# Altium schematic symbol library basic_components.SchLib: 136 symbols
Pins are listed as number, name and electrical type; pins without a type are passive.

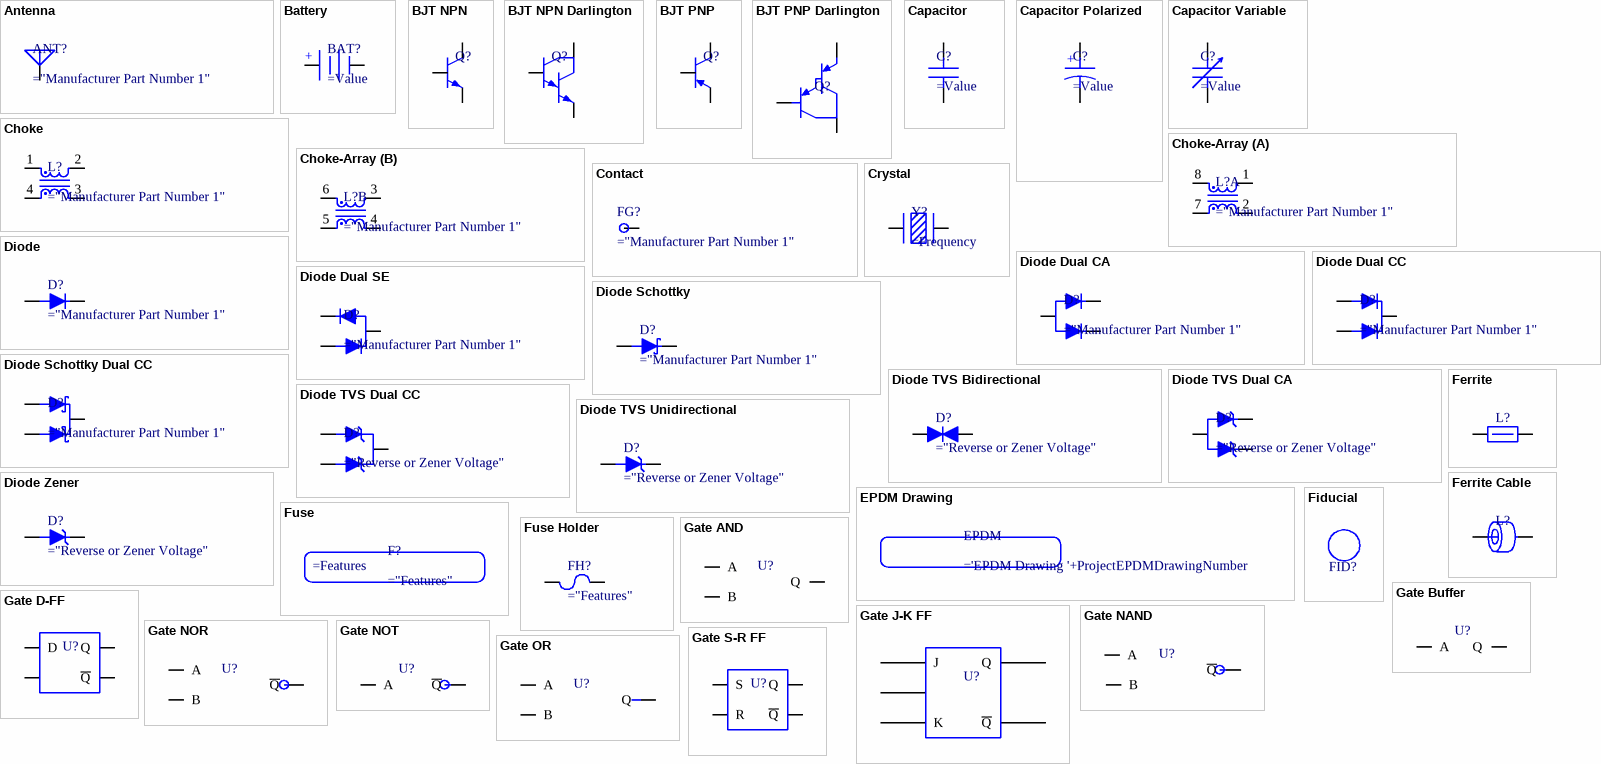
[diagram p0: symbols Antenna to Gate S-R FF]

## Antenna
designator ANT?
Generic Antenna
pins: 1 IN "Antenna Input"

## Battery
designator BAT?
Generic Battery
simulation model Battery (Generic Battery (DC Source))
pins: 1 +, 2 -

## BJT NPN
designator Q?
Generic NPN bipolar transistor
pins: 1 B, 2 E, 3 C

## BJT NPN Darlington
designator Q?
Generic NPN bipolar Darlington pair
pins: 1 B, 2 E, 3 C

## BJT PNP
designator Q?
Generic PNP bipolar transistor
pins: 1 B, 2 E, 3 C

## BJT PNP Darlington
designator Q?
Generic PNP bipolar Darlington pair
pins: 1 B, 2 E, 3 C

## Capacitor
designator C?
Generic cap
pins: 1, 2

## Capacitor Polarized
designator C?
Generic Polarized cap
pins: 1 +, 2 -

## Capacitor Variable
designator C?
Generic variable cap
pins: 1, 2

## Choke
designator L?
Generic Common Mode Choke
pins: 1, 2, 3, 4

## Choke-Array
designator L?
Dual Choke Array
part A pins: 1, 2, 7, 8
part B pins: 3, 4, 5, 6

## Contact
designator FG?  (mechanical)
Really Generic Contact
pins: 1

## Crystal
designator Y?
Generic Crystal Oscillator
pins: 1, 2

## Diode
designator D?
Generic diode
pins: 1 ANODE, 2 CATHODE

## Diode Dual CA
designator D?
Generic Dual Diode, Common Anode
pins: 1 CATHODE_2, 2 CATHODE_1, 3 ANODE

## Diode Dual CC
designator D?
Generic Dual Diode, Common Cathode
pins: 1 ANODE_1, 2 ANODE_2, 3 CATHODE

## Diode Dual SE
designator D?
Generic Dual Diode, Series Connection
pins: 1 ANODE_1, 2 CATHODE_2, 3 CATHODE_1 / ANODE_2

## Diode Schottky
designator D?
Generic Schottky Diode
pins: 1 ANODE, 2 CATHODE

## Diode Schottky Dual CC
designator D?
Generic Dual Schottky Diode, Common Cathode
pins: 1 ANODE_1, 2 ANODE_2, 3 CATHODE

## Diode TVS Bidirectional
designator D?
Generic Bidirectional TVS Diode
pins: 1 ANODE, 2 CATHODE

## Diode TVS Dual CA
designator D?
Dual TVS Diode, Common Anode
pins: 1 CATHODE_2, 2 CATHODE_1, 3 ANODE

## Diode TVS Dual CC
designator D?
Dual TVS Diode, Common Cathode
pins: 1 CATHODE_2, 2 CATHODE_1, 3 ANODE

## Diode TVS Unidirectional
designator D?
Generic Unidirectional TVS Diode
pins: 1 ANODE, 2 CATHODE

## Diode Zener
designator D?
Generic Zener Diode
pins: 1 ANODE, 2 CATHODE

## EPDM Drawing
designator EPDM  (no BOM)
Tag for EPDM Drawing Number

## Ferrite
designator L?
Generic ferrite
pins: 1, 2
1 alternate drawing of the same symbol

## Ferrite Cable
designator L?  (value not drawn)
Generic Ferrite Over Cable
pins: 1, 2

## Fiducial
designator FID?  (value not drawn)  (no BOM)

## Fuse
designator F?  (mechanical)
Generic Fuse

## Fuse Holder
designator FH?
Generic Fuse Holder
pins: 1, 2

## Gate AND
designator U?  (value not drawn)
Generic AND gate
pins: 1 A, 2 B, 3 Q

## Gate Buffer
designator U?  (value not drawn)
Generic Digital Buffer
pins: 1 A, 2 Q

## Gate D-FF
designator U?  (value not drawn)
Generic D-flip flop
pins: 1 D, 2 CLK, 3 Q, 4 ~{Q}

## Gate J-K FF
designator U?  (value not drawn)
Generic J-K flip flop
pins: 1 J, 2 K, 3 Q, 4 ~{Q}, 5 CLK

## Gate NAND
designator U?  (value not drawn)
Generic NAND gate
pins: 1 A, 2 B, 3 ~{Q}

## Gate NOR
designator U?  (value not drawn)
Generic NOR gate
pins: 0 A, 1 B, 2 ~{Q}

## Gate NOT
designator U?  (value not drawn)
Generic NOT gate
pins: 1 A, 3 ~{Q}

## Gate OR
designator U?  (value not drawn)
Generic OR gate
pins: 1 A, 2 B, 3 Q

## Gate S-R FF
designator U?  (value not drawn)
Generic S-R flip-flop
pins: 1 S, 2 R, 3 Q, 4 ~{Q}

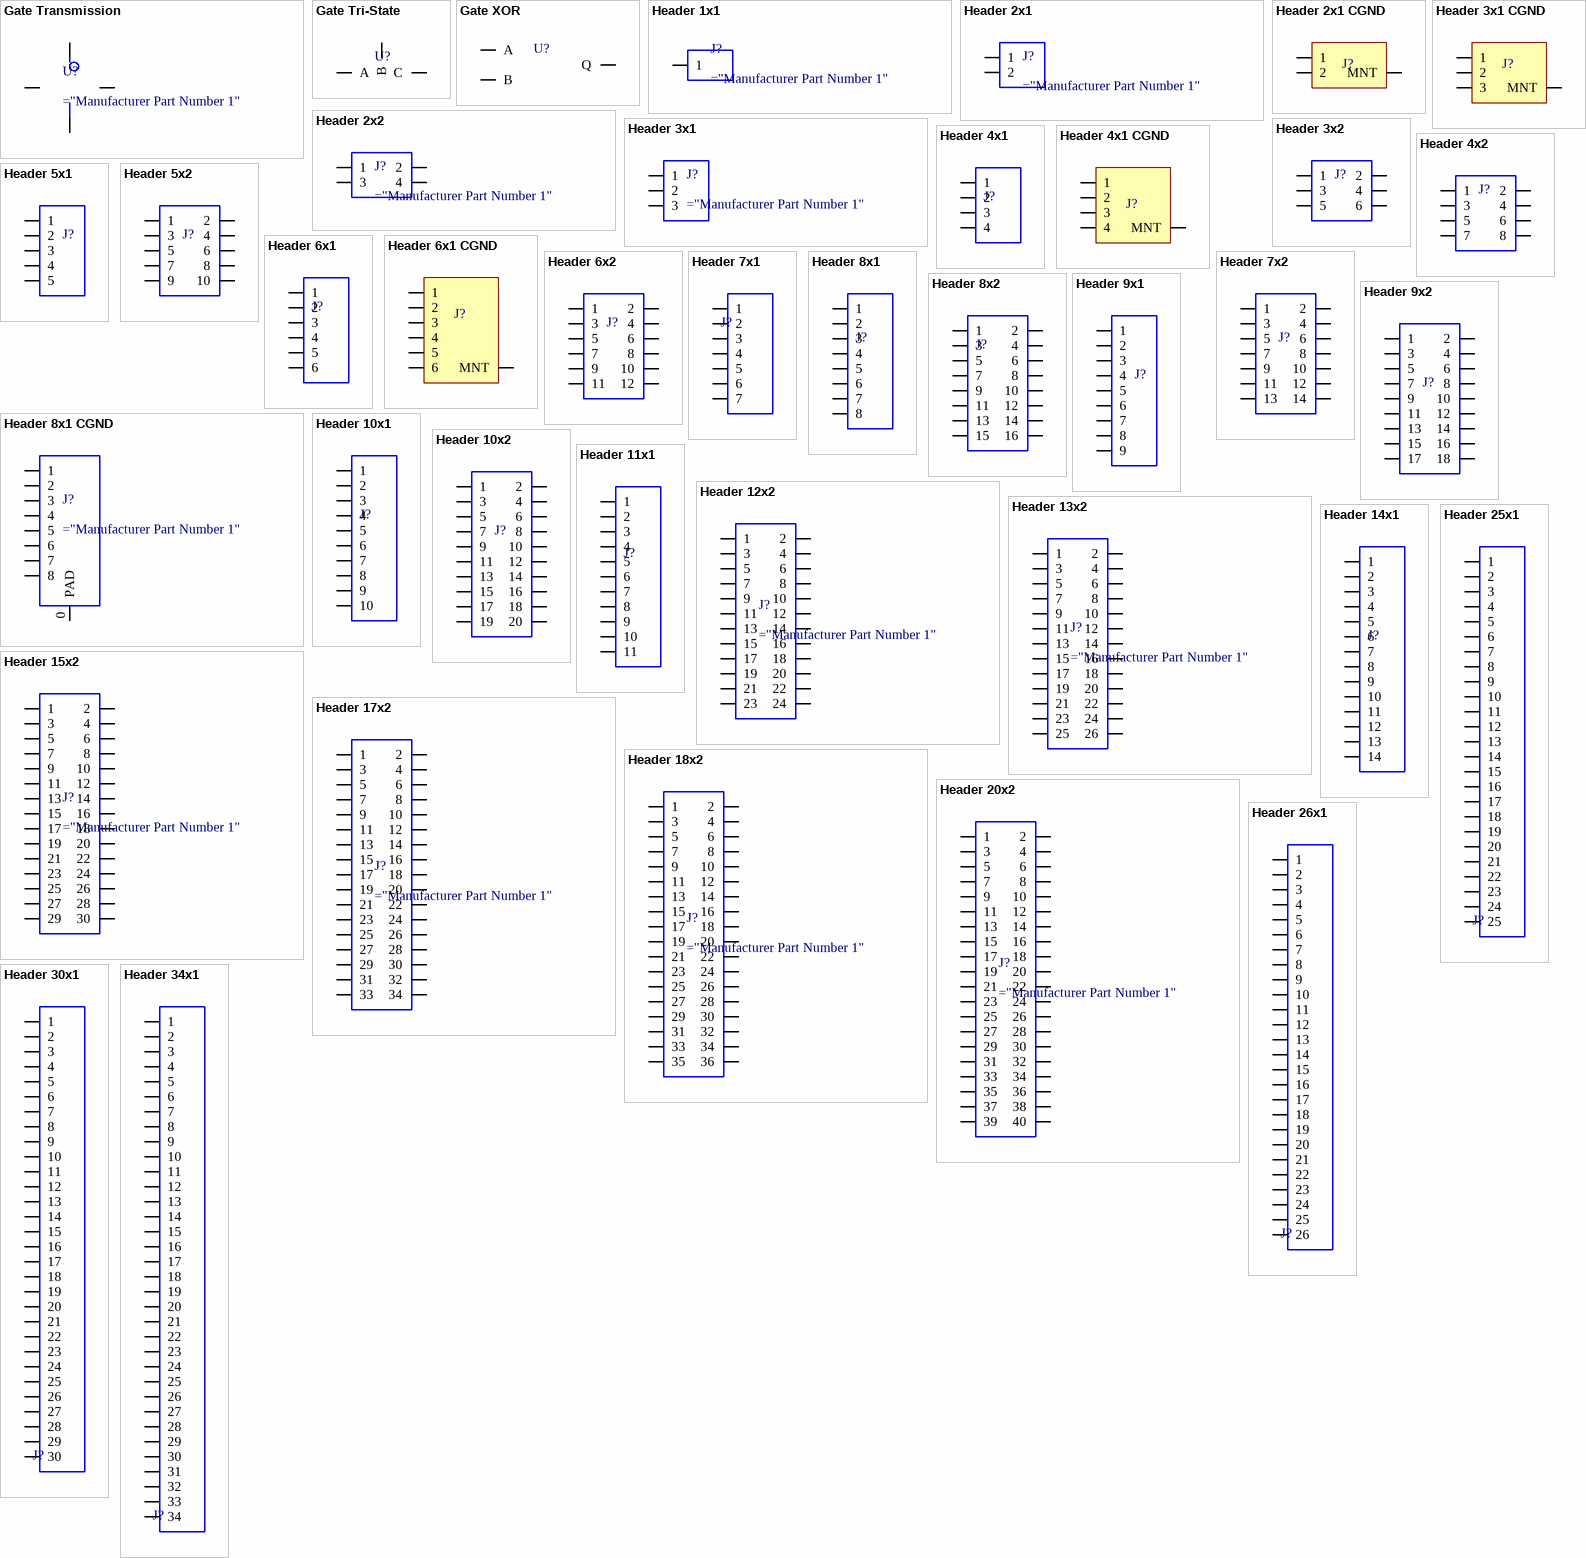
[diagram p1: symbols Gate Transmission to Header 34x1]

## Gate Transmission
designator U?
Generic Transmission Gate
pins: 1 A, 2 C, 3, 4

## Gate Tri-State
designator U?  (value not drawn)
Generic Tristate Buffer
pins: 1 A, 2 C, 3 B

## Gate XOR
designator U?  (value not drawn)
Generic XOR gate
pins: 1 A, 2 B, 3 Q

## Header 1x1
designator J?
Generic 1x1 Header
pins: 1

## Header 2x1
designator J?
Generic 2x1 Header
pins: 1, 2

## Header 2x1 CGND
designator J?
Generic 2x1 with CGND
pins: 1, 2, 3 MNT

## Header 2x2
designator J?
Generic 2x2 Header
pins: 1, 2, 3, 4

## Header 3x1
designator J?
Generic 3x1 Header
pins: 1, 2, 3

## Header 3x1 CGND
designator J?
Generic 3x1 with CGND
pins: 1, 2, 3, 4 MNT

## Header 3x2
designator J?
Generic 3x2 Header
pins: 1, 2, 3, 4, 5, 6

## Header 4x1
designator J?
Generic 4x1 Header
pins: 1, 2, 3, 4

## Header 4x1 CGND
designator J?
Generic 4x1 Header with CGND
pins: 1, 2, 3, 4, 5 MNT

## Header 4x2
designator J?
Generic 4x2 Header
pins: 1, 2, 3, 4, 5, 6, 7, 8

## Header 5x1
designator J?
Generic 5x1 Header
pins: 1, 2, 3, 4, 5

## Header 5x2
designator J?
Generic 5x2 Header
pins: 1, 2, 3, 4, 5, 6, 7, 8, 9, 10

## Header 6x1
designator J?
Generic 6x1 Header
pins: 1, 2, 3, 4, 5, 6

## Header 6x1 CGND
designator J?  (value not drawn)
Generic 6x1 with CGND
pins: 1, 2, 3, 4, 5, 6, 7 MNT

## Header 6x2
designator J?
Generic 6x2 Header
pins: 1, 2, 3, 4, 5, 6, 7, 8, 9, 10, 11, 12

## Header 7x1
designator J?
Generic 7x1 Header
pins: 1, 2, 3, 4, 5, 6, 7

## Header 7x2
designator J?
Generic 7x2 Header
pins: 1, 2, 3, 4, 5, 6, 7, 8, 9, 10, 11, 12, 13, 14

## Header 8x1
designator J?
Generic 8x1 Header
pins: 1, 2, 3, 4, 5, 6, 7, 8

## Header 8x1 CGND
designator J?
Generic 8x1 Header with CGND
pins: 0 PAD, 1, 2, 3, 4, 5, 6, 7, 8

## Header 8x2
designator J?
Generic 8x2 Header
pins: 1, 2, 3, 4, 5, 6, 7, 8, 9, 10, 11, 12, 13, 14, 15, 16

## Header 9x1
designator J?
Generic 9x1 Header
pins: 1, 2, 3, 4, 5, 6, 7, 8, 9

## Header 9x2
designator J?
Generic 9x2 Header
pins: 1, 2, 3, 4, 5, 6, 7, 8, 9, 10, 11, 12, 13, 14, 15, 16, 17, 18

## Header 10x1
designator J?
Generic 10x1 Header
pins: 1, 2, 3, 4, 5, 6, 7, 8, 9, 10

## Header 10x2
designator J?
Generic 10x2 Header
pins: 1, 2, 3, 4, 5, 6, 7, 8, 9, 10, 11, 12, 13, 14, 15, 16, 17, 18, 19, 20

## Header 11x1
designator J?
Generic 11x1 Header
pins: 1, 2, 3, 4, 5, 6, 7, 8, 9, 10, 11

## Header 12x2
designator J?
Generic 12x2 Header
pins: 1, 2, 3, 4, 5, 6, 7, 8, 9, 10, 11, 12, 13, 14, 15, 16, 17, 18, 19, 20, 21, 22, 23, 24

## Header 13x2
designator J?
Generic 13x2 Header
pins: 1, 2, 3, 4, 5, 6, 7, 8, 9, 10, 11, 12, 13, 14, 15, 16, 17, 18, 19, 20, 21, 22, 23, 24, 25, 26

## Header 14x1
designator J?
Generic 14x1 Header
pins: 1, 2, 3, 4, 5, 6, 7, 8, 9, 10, 11, 12, 13, 14

## Header 15x2
designator J?
Generic 15x2 Header
pins: 1, 2, 3, 4, 5, 6, 7, 8, 9, 10, 11, 12, 13, 14, 15, 16, 17, 18, 19, 20, 21, 22, 23, 24, 25, 26, 27, 28, 29, 30

## Header 17x2
designator J?
Generic 17x2 Header
pins: 1, 2, 3, 4, 5, 6, 7, 8, 9, 10, 11, 12, 13, 14, 15, 16, 17, 18, 19, 20, 21, 22, 23, 24, 25, 26, 27, 28, 29, 30, 31, 32, 33, 34

## Header 18x2
designator J?
Generic 18x2 Header
pins: 1, 2, 3, 4, 5, 6, 7, 8, 9, 10, 11, 12, 13, 14, 15, 16, 17, 18, 19, 20, 21, 22, 23, 24, 25, 26, 27, 28, 29, 30, 31, 32, 33, 34, 35, 36

## Header 20x2
designator J?
Generic 20x2 Header
pins: 1, 2, 3, 4, 5, 6, 7, 8, 9, 10, 11, 12, 13, 14, 15, 16, 17, 18, 19, 20, 21, 22, 23, 24, 25, 26, 27, 28, 29, 30, 31, 32, 33, 34, 35, 36, 37, 38, 39, 40

## Header 25x1
designator J?
Generic 25x1 Header
pins: 1, 2, 3, 4, 5, 6, 7, 8, 9, 10, 11, 12, 13, 14, 15, 16, 17, 18, 19, 20, 21, 22, 23, 24, 25

## Header 26x1
designator J?
Generic 26x1 Header
pins: 1, 2, 3, 4, 5, 6, 7, 8, 9, 10, 11, 12, 13, 14, 15, 16, 17, 18, 19, 20, 21, 22, 23, 24, 25, 26

## Header 30x1
designator J?
Generic 30x1 Header
pins: 1, 2, 3, 4, 5, 6, 7, 8, 9, 10, 11, 12, 13, 14, 15, 16, 17, 18, 19, 20, 21, 22, 23, 24, 25, 26, 27, 28, 29, 30

## Header 34x1
designator J?
Generic 34x1 Header
pins: 1, 2, 3, 4, 5, 6, 7, 8, 9, 10, 11, 12, 13, 14, 15, 16, 17, 18, 19, 20, 21, 22, 23, 24, 25, 26, 27, 28, 29, 30, 31, 32, 33, 34

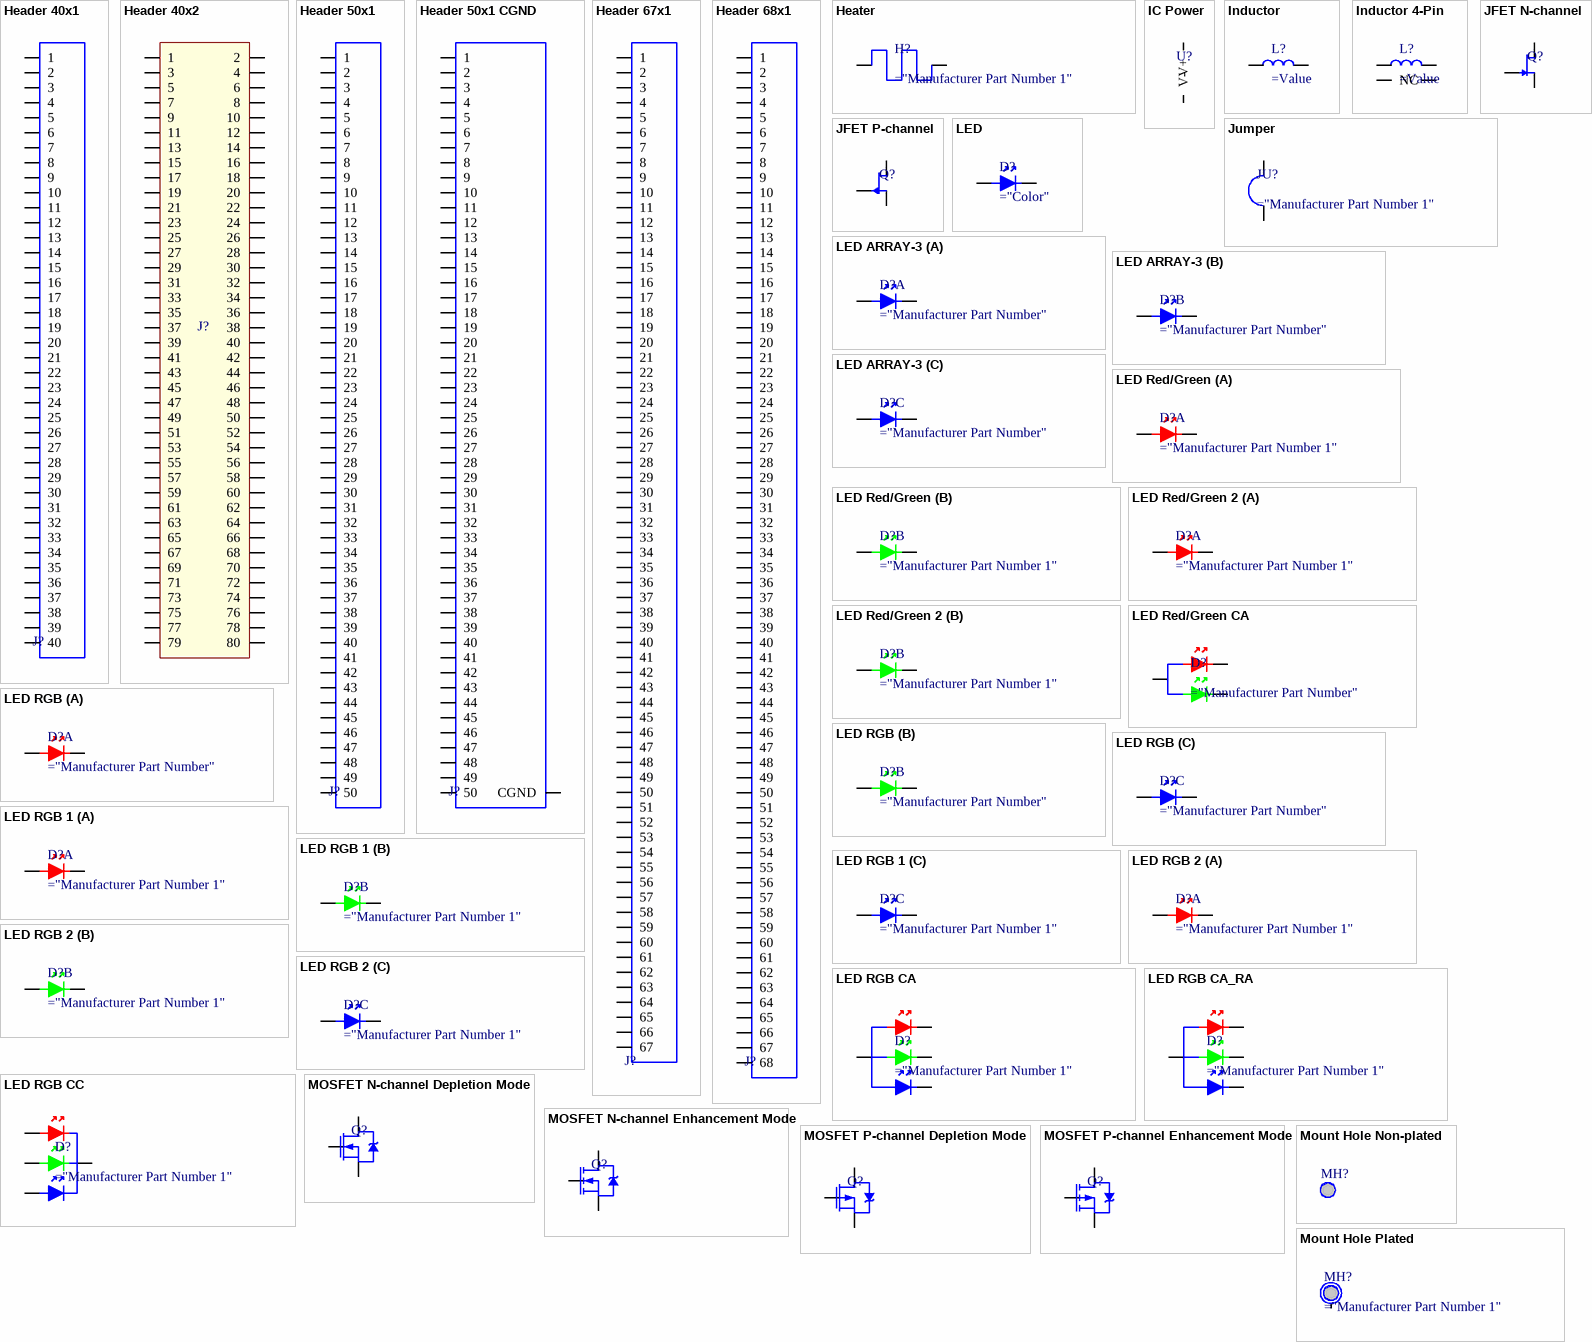
[diagram p2: symbols Header 40x1 to Mount Hole Plated]

## Header 40x1
designator J?
Generic 40x1 Header
pins: 1, 2, 3, 4, 5, 6, 7, 8, 9, 10, 11, 12, 13, 14, 15, 16, 17, 18, 19, 20, 21, 22, 23, 24, 25, 26, 27, 28, 29, 30, 31, 32, 33, 34, 35, 36, 37, 38, 39, 40

## Header 40x2
designator J?
Generic 40x2 Header
pins: 1, 2, 3, 4, 5, 6, 7, 8, 9, 10, 11, 12, 13, 14, 15, 16, 17, 18, 19, 20, 21, 22, 23, 24, 25, 26, 27, 28, 29, 30, 31, 32, 33, 34, 35, 36, 37, 38, 39, 40, 41, 42, 43, 44, 45, 46, 47, 48, 49, 50, 51, 52, 53, 54, 55, 56, 57, 58, 59, 60, 61, 62, 63, 64, 65, 66, 67, 68, 69, 70, 71, 72, 73, 74, 75, 76, 77, 78, 79, 80

## Header 50x1
designator J?
Generic 50x1 Header
pins: 1, 2, 3, 4, 5, 6, 7, 8, 9, 10, 11, 12, 13, 14, 15, 16, 17, 18, 19, 20, 21, 22, 23, 24, 25, 26, 27, 28, 29, 30, 31, 32, 33, 34, 35, 36, 37, 38, 39, 40, 41, 42, 43, 44, 45, 46, 47, 48, 49, 50

## Header 50x1 CGND
designator J?
Generic 50x1 Header w/ CGND
pins: 0 CGND, 1, 2, 3, 4, 5, 6, 7, 8, 9, 10, 11, 12, 13, 14, 15, 16, 17, 18, 19, 20, 21, 22, 23, 24, 25, 26, 27, 28, 29, 30, 31, 32, 33, 34, 35, 36, 37, 38, 39, 40, 41, 42, 43, 44, 45, 46, 47, 48, 49, 50

## Header 67x1
designator J?
Generic 67x1 Header
pins: 1, 2, 3, 4, 5, 6, 7, 8, 9, 10, 11, 12, 13, 14, 15, 16, 17, 18, 19, 20, 21, 22, 23, 24, 25, 26, 27, 28, 29, 30, 31, 32, 33, 34, 35, 36, 37, 38, 39, 40, 41, 42, 43, 44, 45, 46, 47, 48, 49, 50, 51, 52, 53, 54, 55, 56, 57, 58, 59, 60, 61, 62, 63, 64, 65, 66, 67

## Header 68x1
designator J?
Generic 68x1 Header
pins: 1, 2, 3, 4, 5, 6, 7, 8, 9, 10, 11, 12, 13, 14, 15, 16, 17, 18, 19, 20, 21, 22, 23, 24, 25, 26, 27, 28, 29, 30, 31, 32, 33, 34, 35, 36, 37, 38, 39, 40, 41, 42, 43, 44, 45, 46, 47, 48, 49, 50, 51, 52, 53, 54, 55, 56, 57, 58, 59, 60, 61, 62, 63, 64, 65, 66, 67, 68

## Heater
designator H?
Generica Heater
pins: 1, 2

## IC Power
designator U?  (value not drawn)
Generic IC Power Gate
pins: 1 V+, 2 V-

## Inductor
designator L?
Generic Inductor
pins: 1, 2

## Inductor 4-Pin
designator L?
An inductor with 2 mechanical pads
pins: 1, 2, 3 NC, 4 NC

## JFET N-channel
designator Q?
Generic N-channel JFET
pins: 1 D, 2 S, 3 G

## JFET P-channel
designator Q?
Generic P-channel JFET
pins: 1 D, 2 S, 3 G

## Jumper
designator JU?  (no BOM)
Generic Jumper Symbol
pins: 1, 2

## LED
designator D?
Generic LED
pins: 1 A, 2 K

## LED ARRAY-3
designator D?
3 LED array with individual leads
part A pins: 1 A, 6 K
part B pins: 2 A, 5 K
part C pins: 3 A, 4 K

## LED Red/Green
designator D?
Generic Red/Green LED with individual leads
part A pins: 1 A, 2 K
part B pins: 3 A, 4 K

## LED Red/Green 2
designator D?
Generic Red/Green LED with individual leads
part A pins: 2 A, 4 K
part B pins: 1 A, 3 K

## LED Red/Green CA
designator D?
Generic RGB LED with common anode
pins: 1 A, 2 K-R, 3 K-G

## LED RGB
designator D?
Generic RGB LED with individual leads
part A pins: 1 A, 2 K
part B pins: 3 A, 4 K
part C pins: 5 A, 6 K

## LED RGB 1
designator D?
Generic RGB LED with individual leads, cathodes are pins 1,2,3
part A pins: 1 K, 6 A
part B pins: 2 K, 5 A
part C pins: 3 K, 4 A

## LED RGB 2
designator D?
Generic RGB LED with individual leads, cathodes are pins 6,5,4
part A pins: 1 A, 6 K
part B pins: 2 A, 5 K
part C pins: 3 A, 4 K

## LED RGB CA
designator D?
Generic RGB LED with common anode
pins: 1 A, 2 K-R, 3 K-G, 4 K-B

## LED RGB CA_RA
designator D?
Generic RGB LED with common anode
pins: 1 K-R, 2 A, 3 K-G, 4 K-B

## LED RGB CC
designator D?
Generic RGB LED with common cathode
pins: 1 A-R, 2 A-G, 3 A-B, 4 K

## MOSFET N-channel Depletion Mode
designator Q?
Generic Depeletion mode N-channel MOSFET
pins: 1 G, 2 S, 3 D

## MOSFET N-channel Enhancement Mode
designator Q?
Generic Enhancement mode N-channel MOSFET
pins: 1 G, 2 S, 3 D

## MOSFET P-channel Depletion Mode
designator Q?
Generic Depletion mode P-channel MOSFET
pins: 1 G, 2 S, 3 D

## MOSFET P-channel Enhancement Mode
designator Q?
Generic Enhancement mode P-channel MOSFET
pins: 1 G, 2 S, 3 D

## Mount Hole Non-plated
designator MH?  (no BOM)
Non-plated Mounting Hole

## Mount Hole Plated
designator MH?  (no BOM)
Plated Mounting Hole
pins: 0

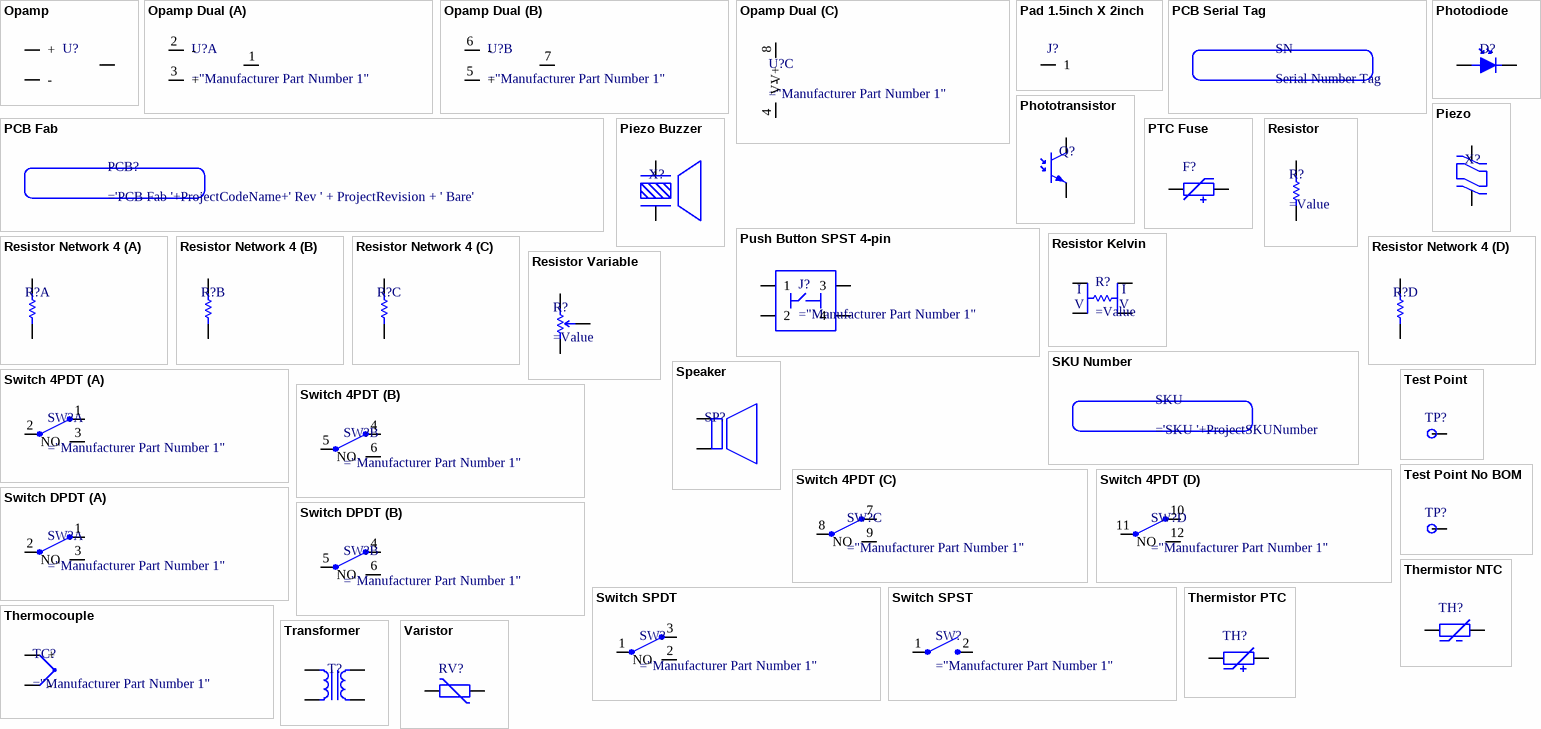
[diagram p3: symbols Opamp to Varistor]

## Opamp
designator U?
Generic Opamp
pins: 1 +, 2 -, 3 O

## Opamp Dual
designator U?
Generic Dual Opamp
part A pins: 1 Out1, 2 -, 3 +
part B pins: 5 +, 6 -, 7 Out2
part C pins: 4 V-, 8 V+

## Pad 1.5inch X 2inch
designator J?
Bare Copper, 1.5"x2"
pins: 1

## PCB Fab
designator PCB?  (mechanical)
Bare Circuit Board

## PCB Serial Tag
designator SN, comment Serial Number Tag  (mechanical)
PCB Tag for Contract Manufacturer

## Photodiode
designator D?
Generic photodiode
pins: 1 A, 2 K

## Phototransistor
designator Q?
Generic phototransistor
pins: 1 C, 2 E

## Piezo
designator X?
Generic Piezo Disc
pins: 1, 2

## Piezo Buzzer
designator X?
Generic Piezo Buzzer
pins: 1, 2

## PTC Fuse
designator F?
PTC Resettable Fuse
pins: 1, 2

## Push Button SPST 4-pin
designator J?
Push Button SPST 4-pin
pins: 1, 2, 3, 4

## Resistor
designator R?
Generic Resistor
pins: 1, 2

## Resistor Kelvin
designator R?
Four-Port Current Sense Resistor
pins: 1, 2, 3, 4
text: I; V

## Resistor Network 4
designator R?
part A pins: 1, 2
part B pins: 3, 4
part C pins: 5, 6
part D pins: 7, 8

## Resistor Variable
designator R?
Generic Variable Resistor (Potentiometer)
pins: 1, 2, 3

## SKU Number
designator SKU  (no BOM)
MERP/SKU Number

## Speaker
designator SP?
Generic Loudspeaker
pins: 1 +, 2 -

## Switch 4PDT
designator SW?
Generic 4 Position Double Throw Switch
part A pins: 1 NC, 2 COM, 3 NO
part B pins: 4 NC, 5 COM, 6 NO
part C pins: 7 NC, 8 COM, 9 NO
part D pins: 10 NC, 11 COM, 12 NO

## Switch DPDT
designator SW?
Generic Double Position Double Throw Switch
part A pins: 1 NC, 2 COM, 3 NO
part B pins: 4 NC, 5 COM, 6 NO

## Switch SPDT
designator SW?
Generic SPDT Switch with NO/NC contacts
pins: 1 COM, 2 NO, 3 NC

## Switch SPST
designator SW?
Generic SPST Switch NO
pins: 1, 2

## Test Point
designator TP?
Generic Test Point
pins: 1

## Test Point No BOM
designator TP?  (value not drawn)  (no BOM)
Generic Test Point (No BOM)
pins: 1

## Thermistor NTC
designator TH?
Generic Thermistor, NTC
pins: 1, 2
1 alternate drawing of the same symbol

## Thermistor PTC
designator TH?
Generic Thermistor, PTC
pins: 1, 2
1 alternate drawing of the same symbol

## Thermocouple
designator TC?
Generic Thermocouple
pins: 1 +, 2 -

## Transformer
designator T?
Generic Transformer
pins: 1, 2, 3, 4

## Varistor
designator RV?
Generic Varistor
pins: 1, 2